# Altium footprint library Bran.PcbLib: 102 footprints (part 1 of 7)
Each footprint in its own frame and in the unit in brackets; x right, y up, seen from the top. Pads: shape width x height; smd on the part's side, far side on the other; paste and mask are expansions set on the pad; w line width, h text height; cw(c..) or ccw(c..) is an arc to the next point about the centre after c.
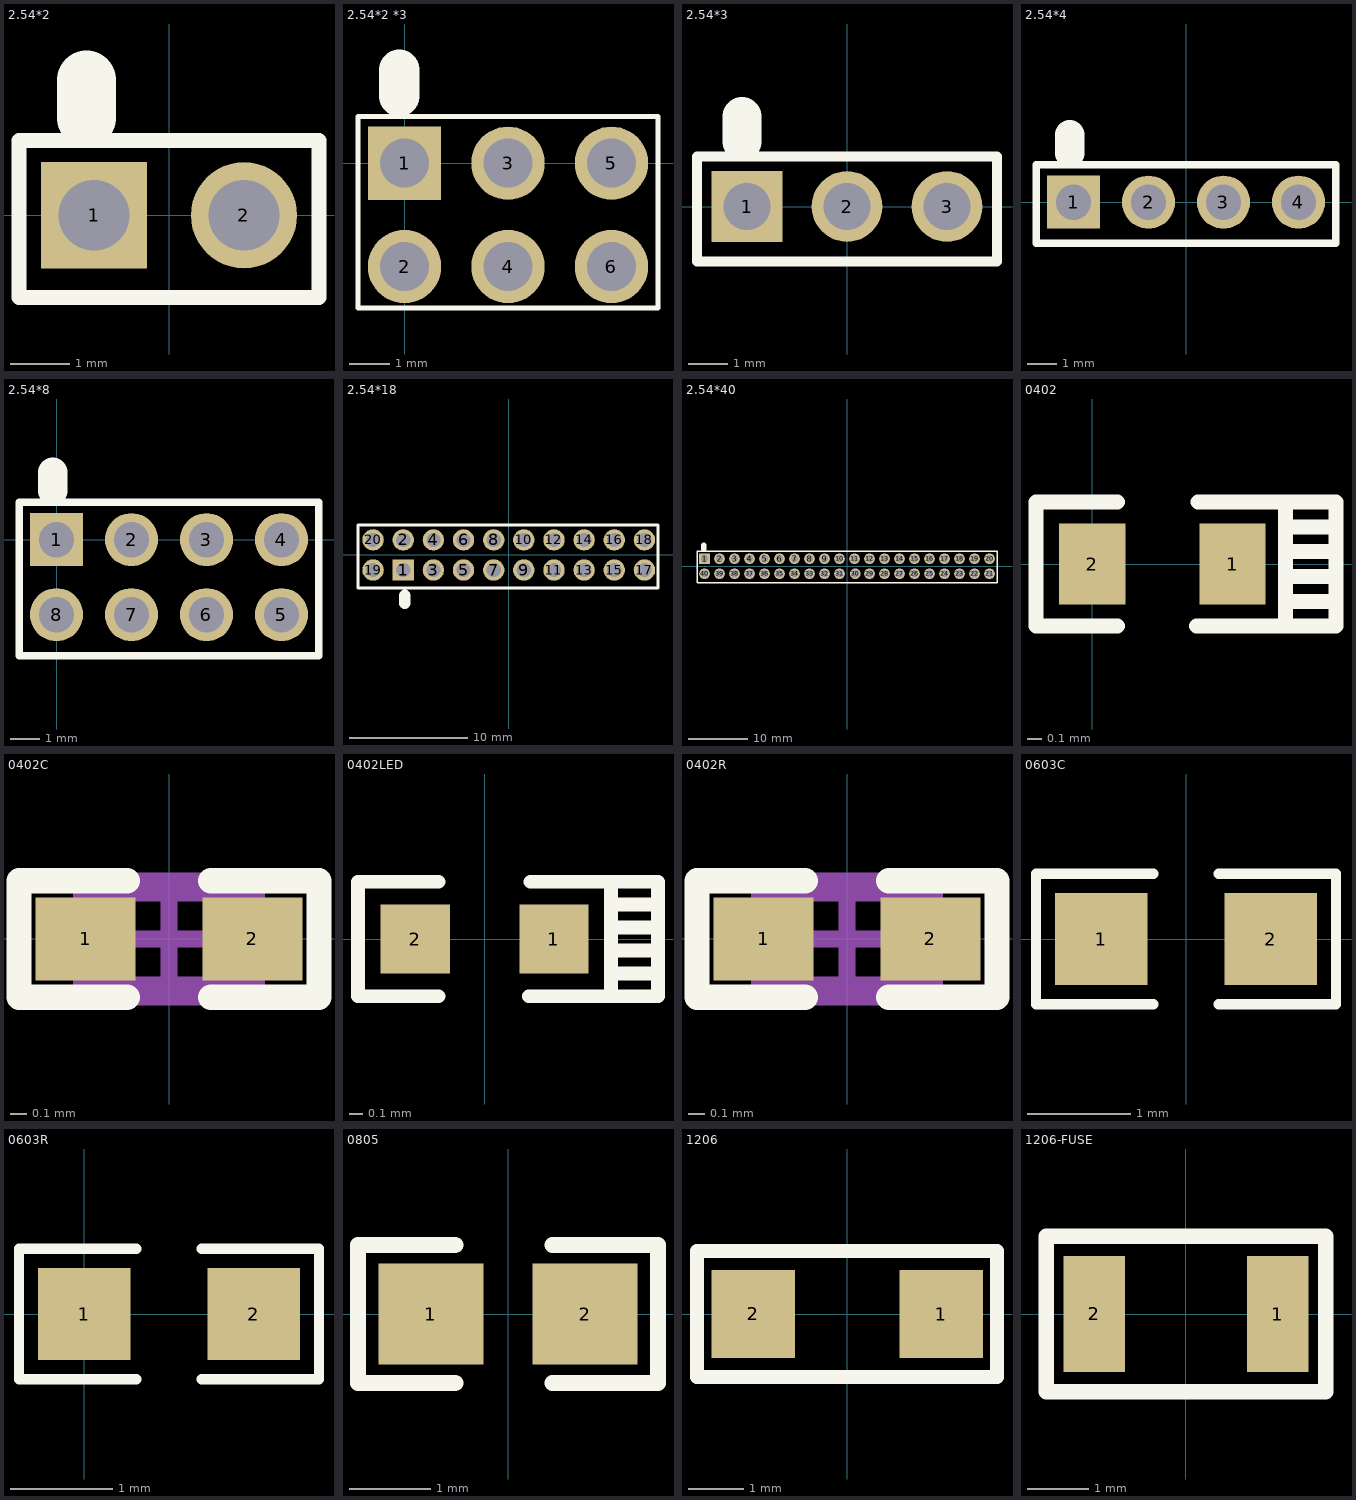
[diagram p0: the footprints below, top view; thin cyan lines are the x and y axes]

## 2.54*2 [mm]
pads (2):
  rect 1.8x1.8 hole 1.2: 1(-1.27,0)
  round 1.8 hole 1.2: 2(1.27,0)
Top Overlay:
  lines w0.254: -2.54,-1.397 2.54,-1.397 2.54,1.27 -2.54,1.27 -2.54,-1.397
  lines w1: -1.397,1.651 -1.397,2.286

## 2.54*2 *3 [mm]
pads (6):
  rect 1.8x1.8 hole 1.2: 1(0,0)
  round 1.8 hole 1.2: 2(0,-2.54) 3(2.54,0) 4(2.54,-2.54) 5(5.08,0) 6(5.08,-2.54)
Top Overlay:
  lines w0.127: -1.143,-3.556 -1.143,1.143 6.223,1.143 6.223,-3.556 -1.143,-3.556
  lines w1: -0.127,1.651 -0.127,2.286

## 2.54*3 [mm]
pads (3):
  rect 1.8x1.8 hole 1.2: 1(-2.54,0)
  round 1.8 hole 1.2: 2(0,0) 3(2.54,0)
Top Overlay:
  lines w0.254: -3.81,-1.397 3.81,-1.397 3.81,1.27 -3.81,1.27 -3.81,-1.397
  lines w1: -2.667,1.651 -2.667,2.286

## 2.54*4 [mm]
pads (4):
  rect 1.8x1.8 hole 1.2: 1(-3.81,0)
  round 1.8 hole 1.2: 2(-1.27,0) 3(1.27,0) 4(3.81,0)
Top Overlay:
  lines w0.254: -5.08,-1.397 5.08,-1.397 5.08,1.27 -5.08,1.27 -5.08,-1.397
  lines w1: -3.937,1.651 -3.937,2.286

## 2.54*8 [mm]
pads (8):
  rect 1.8x1.8 hole 1.2: 1(0,0)
  round 1.8 hole 1.2: 2(2.54,0) 3(5.08,0) 4(7.62,0) 5(7.62,-2.54) 6(5.08,-2.54) 7(2.54,-2.54) 8(0,-2.54)
Top Overlay:
  lines w0.254: -1.27,-3.937 -1.27,1.27 8.89,1.27 8.89,-3.937 -1.27,-3.937
  lines w1: -0.127,1.651 -0.127,2.286

## 2.54*18 [mm]
pads (20):
  rect 1.8x1.8 hole 1.2: 1(-8.89,-1.27)
  round 1.8 hole 1.2: 2(-8.89,1.27) 3(-6.35,-1.27) 4(-6.35,1.27) 5(-3.81,-1.27) 6(-3.81,1.27) 7(-1.27,-1.27) 8(-1.27,1.27) 9(1.27,-1.27) 10(1.27,1.27) 11(3.81,-1.27) 12(3.81,1.27) 13(6.35,-1.27) 14(6.35,1.27) 15(8.89,-1.27) 16(8.89,1.27) 17(11.43,-1.27) 18(11.43,1.27) 19(-11.43,-1.27) 20(-11.43,1.27)
Top Overlay:
  lines w0.254: -12.7,-2.794 12.573,-2.794 12.573,2.54 -12.7,2.54 -12.7,-2.794
  lines w1: -8.763,-4.064 -8.763,-3.429

## 2.54*40 [mm]
pads (40):
  rect 1.8x1.8 hole 1.2: 1(-24.13,1.27)
  round 1.8 hole 1.2: 2(-21.59,1.27) 3(-19.05,1.27) 4(-16.51,1.27) 5(-13.97,1.27) 6(-11.43,1.27) 7(-8.89,1.27) 8(-6.35,1.27) 9(-3.81,1.27) 10(-1.27,1.27) 11(1.27,1.27) 12(3.81,1.27) 13(6.35,1.27) 14(8.89,1.27) 15(11.43,1.27) 16(13.97,1.27) 17(16.51,1.27) 18(19.05,1.27) 19(21.59,1.27) 20(24.13,1.27) 21(24.13,-1.27) 22(21.59,-1.27) 23(19.05,-1.27) 24(16.51,-1.27) 25(13.97,-1.27) 26(11.43,-1.27) 27(8.89,-1.27) 28(6.35,-1.27) 29(3.81,-1.27) 30(1.397,-1.27) 31(-1.27,-1.27) 32(-3.81,-1.27) 33(-6.35,-1.27) 34(-8.89,-1.27) 35(-11.43,-1.27) 36(-13.97,-1.27) 37(-16.51,-1.27) 38(-19.05,-1.27) 39(-21.59,-1.27) 40(-24.13,-1.27)
Top Overlay:
  lines w0.254: -25.4,-2.794 25.4,-2.794 25.4,2.54 -25.4,2.54 -25.4,-2.794
  lines w1: -24.257,2.921 -24.257,3.556

## 0402 [mm]
pads (2):
  rect 0.45x0.55 smd: 1(0.95,0) 2(0,0)
Top Overlay:
  lines w0.102: 0.172,-0.419 -0.381,-0.419 -0.381,0.419 0.172,0.419 ; 0.705,-0.419 1.651,-0.419 1.651,0.419 0.717,0.419 ; 1.308,-0.419 1.308,0.419 ; 1.337,-0.253 1.651,-0.253 ; 1.337,-0.085 1.651,-0.085 ; 1.337,0.083 1.651,0.083 ; 1.337,0.251 1.651,0.251

## 0402C [mm]
pads (2):
  rect 0.6x0.5 smd: 1(-0.5,0) 2(0.5,0)
Top Overlay:
  lines w0.152: -0.25,-0.35 -0.9,-0.35 -0.9,0.35 -0.25,0.35 ; 0.25,-0.35 0.9,-0.35 0.9,0.35 0.25,0.35
Mechanical 13:
  lines w0.1: -0.525,-0.275 0.525,-0.275 0.525,0.275 -0.525,0.275 -0.525,-0.275
Mechanical 15:
  lines w0.1: -0.275,0 0.275,0 ; 0,-0.275 0,0.275 ; -0.9,-0.35 -0.9,0.35 0.9,0.35 0.9,-0.35 -0.9,-0.35
3D body: height 0.5, standoff -0.01, extent -0.508,-0.254 0.508,0.254

## 0402LED [mil]
pads (2):
  rect 20x20 smd: 1(20,0) 2(-20,0)
Top Overlay:
  lines w4: -13.25,-16.5 -36.5,-16.5 -36.5,16.5 -13.25,16.5 ; 12.75,-16.5 50,-16.5 50,16.5 13.25,16.5 ; 36.5,-16.5 36.5,16.5 ; 37.63,-9.96 50,-9.96 ; 37.63,-3.35 50,-3.35 ; 37.63,3.27 50,3.27 ; 37.63,9.9 50,9.9
3D body: height 15.75, standoff 0, extent -34,-14 34,14

## 0402R [mm]
pads (2):
  rect 0.6x0.5 smd: 1(-0.5,0) 2(0.5,0)
Top Overlay:
  lines w0.152: -0.25,-0.35 -0.9,-0.35 -0.9,0.35 -0.25,0.35 ; 0.25,-0.35 0.9,-0.35 0.9,0.35 0.25,0.35
Mechanical 13:
  lines w0.1: -0.525,-0.275 -0.525,0.275 0.525,0.275 0.525,-0.275 -0.525,-0.275
Mechanical 15:
  lines w0.1: -0.275,0 0.275,0 ; 0,-0.275 0,0.275 ; -0.9,-0.35 0.9,-0.35 0.9,0.35 -0.9,0.35 -0.9,-0.35
3D body: height 0.5, standoff -0.01, extent -0.508,-0.254 0.508,0.254

## 0603C [mm]
pads (2):
  rect 0.9x0.9 smd: 1(-0.826,0) 2(0.826,0)
Top Overlay:
  lines w0.102: -0.318,-0.635 -1.46,-0.635 -1.46,0.635 -0.318,0.635 ; 0.318,-0.635 1.46,-0.635 1.46,0.635 0.318,0.635
3D body: height 0.9, standoff 0, extent -1.377,-0.552 1.377,0.552

## 0603R [mm]
pads (2):
  rect 0.9x0.9 smd: 1(0,0) 2(1.651,0)
Top Overlay:
  lines w0.102: 0.508,-0.635 -0.635,-0.635 -0.635,0.635 0.508,0.635 ; 1.143,-0.635 2.286,-0.635 2.286,0.635 1.143,0.635
3D body: height 0.5, standoff 0, extent -0.552,-0.552 2.203,0.552

## 0805 [mm]
pads (2):
  rect 1.3x1.25 smd: 1(-0.95,0) 2(0.95,0)
Top Overlay:
  lines w0.2: -0.65,-0.85 -1.85,-0.85 -1.85,0.85 -0.65,0.85 ; 0.55,-0.85 1.85,-0.85 1.85,0.85 0.55,0.85
3D body: height 0.6, standoff 0, extent -1.702,-0.727 1.702,0.727

## 1206 [mm]
pads (2):
  rect 1.52x1.6 smd: 1(1.71,0) 2(-1.71,0)
Top Overlay:
  lines w0.254: -2.735,-1.143 -2.735,1.143 2.726,1.143 2.726,-1.143 -2.735,-1.143
3D body: height 0.9, standoff 0, extent -2.572,-0.902 2.572,0.902

## 1206-FUSE [mm]
pads (2):
  rect 1x1.9 smd: 1(1.5,0) 2(-1.5,0)
Top Overlay:
  lines w0.254: -2.286,-1.27 -2.286,1.27 2.286,1.27 2.286,-1.27 -2.286,-1.27
3D body: height 1.4, standoff 0, extent -2.427,-1.202 2.475,1.202